# Altium schematic symbol library BAT54BRW.Schlib: 1 symbol
Pins are listed as number, name and electrical type; pins without a type are passive.

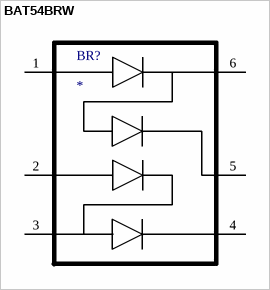
[diagram p0: symbol BAT54BRW]

## BAT54BRW
designator BR?
pins: 1 (power), 2 (power), 3 (power), 4 (power), 5 (power), 6 (power)